# Altium schematic symbol library 3_C5157152_TP5000移动电源方案验证板.schdoc.SCHLIB: 15 symbols
Pins are listed as number, name and electrical type; pins without a type are passive.

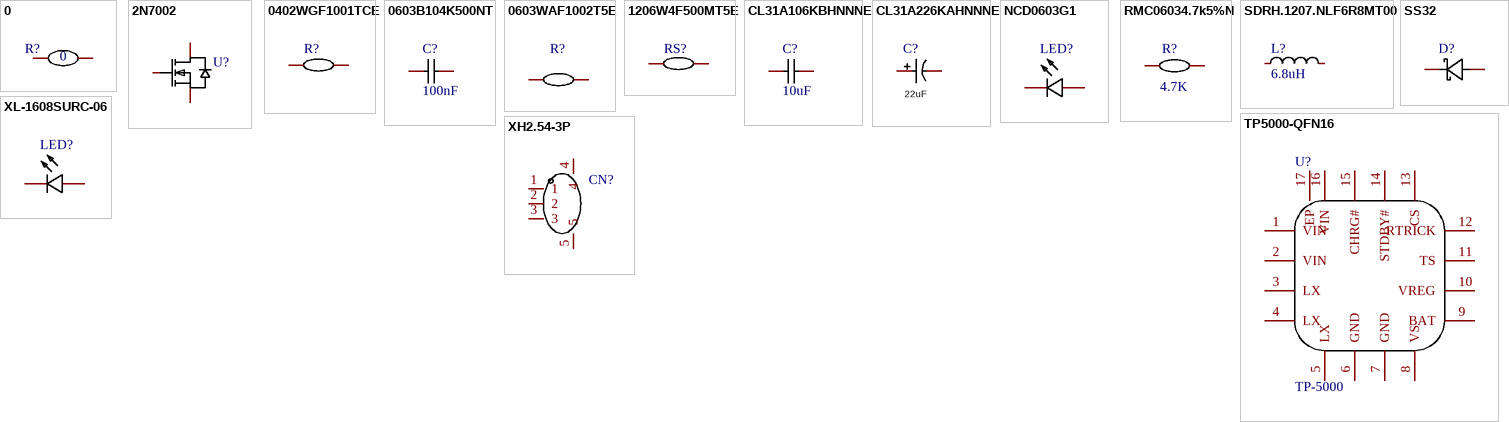
[diagram p0: symbols 0 to XL-1608SURC-06]

## 0
designator R?
Convert to PCB: yes; Origin Footprint: R0603; Symbol: 0; Device: 0; Add into BOM: yes; Name: 0
footprint 0603C
pins: 1, 2

## 2N7002
designator U?  (value not drawn)
Symbol: 2N7002_C727149; Add into BOM: yes; Device: 2N7002; LCSC Part Name: 2N7002; Supplier Part: C727149; Manufacturer Part: 2N7002; Supplier Footprint: SOT23; JLCPCB Part Class: Extended Part; Datasheet: https://atta.szlcsc.com/upload/public/pdf/source/20200827/C727149_F88DE2A79720D5B1ACE833184507B038.pdf; Supplier: LCSC; Convert to PCB: yes; Type: -; Drain Source Voltage (Vdss): -; Continuous Drain Current (Id): -; Power Dissipation (Pd): -; Drain Source On Resistance (RDS(on)@Vgs,Id): -; Gate Threshold Voltage (Vgs(th)@Id): -; Total Gate Charge (Qg@Vgs): -; Input Capacitance (Ciss@Vds): -; Reverse Transfer Capacitance (Crss@Vds): -; Name: 2N7002
footprint SOT-23-3_L2.9-W1.3-P1.90-LS2.4-BR
3D model SOT-23-3P_L2.9-W1.3-H1.0-LS2.4-P0.95
pins: 1 G, 2 S, 3 D

## 0402WGF1001TCE
designator R?
Device: 0402WGF1001TCE; Add into BOM: yes; Power(Watts): 62.5mW; Overload Voltage (Max): 50V; Manufacturer Part: 0402WGF1001TCE; Supplier Footprint: 0402; JLCPCB Part Class: Basic Part; Datasheet: https://atta.szlcsc.com/upload/public/pdf/source/20200306/C422600_1E6D84923E4A46A82E41ADD87F860B5C.pdf; Supplier: LCSC; Convert to PCB: yes
footprint 0402C
3D model R0402_L1.0-W0.5-H0.5
pins: 1, 2

## 0603B104K500NT
designator C?, comment 100nF
Manufacturer: FH; Device: 0603B104K500NT; Convert to PCB: yes; Origin Footprint: C0603; Symbol: 100nF; Supplier: LCSC; Manufacturer Part: 0603B104K500NT; Supplier Part: C30926; JLCPCB Part Class: Extended Part; Add into BOM: yes; Name: 100nF
footprint 0603C
pins: 1, 2

## 0603WAF1002T5E
designator R?
Manufacturer: UniOhm; Device: 0603WAF1002T5E; Resistance: 10K; Convert to PCB: yes; Origin Footprint: R0603; Supplier: LCSC; Manufacturer Part: 0603WAF1002T5E; Supplier Part: C25804; JLCPCB Part Class: Basic Part; Add into BOM: yes
footprint 0603C
pins: 1, 2

## 1206W4F500MT5E
designator RS?
Manufacturer: UniOhm; Device: 1206W4F500MT5E; Resistance: 0.05; Convert to PCB: yes; Origin Footprint: R1206; Supplier: LCSC; Manufacturer Part: 1206W4F500MT5E; Supplier Part: C127691; JLCPCB Part Class: Extended Part; Add into BOM: yes
footprint R1812
pins: 1, 2

## CL31A106KBHNNNE
designator C?, comment 10uF
Symbol: CL31A106KBHNNNE; Add into BOM: yes; Voltage Rated: 50V; Temperature Coefficient: X5R; Device: CL31A106KBHNNNE; Supplier Part: C13585; Manufacturer Part: CL31A106KBHNNNE; Supplier Footprint: 1206; JLCPCB Part Class: Basic Part; Datasheet: https://atta.szlcsc.com/upload/public/pdf/source/20160103/1457707668742.pdf; Supplier: LCSC; Convert to PCB: yes; Value: 10uF; Name: 10uF
footprint C1206
3D model C1206_L3.2-W1.6-H1.3
pins: 1, 2

## CL31A226KAHNNNE
designator C?, comment 22uF
Device: CL31A226KAHNNNE; Add into BOM: yes; Temperature Coefficient: X5R; Voltage Rated: 25V; Origin Footprint: CAP-TH_BD4.0-P1.50-D0.8-FD; Supplier Part: C12891; Manufacturer Part: CL31A226KAHNNNE; Supplier Footprint: 1206; JLCPCB Part Class: Extended Part; Datasheet: https://atta.szlcsc.com/upload/public/pdf/source/20160103/1457707667836.pdf; Supplier: LCSC; Convert to PCB: yes; Symbol: 22uF; Value: 22uF
footprint C1206
3D model C1206_L3.2-W1.6-H1.3
footprint CAP-SMD_BD6.3-L6.6-W6.6-FD
pins: 1, 2

## NCD0603G1
designator LED?  (value not drawn)
Symbol: 19-217/GHC-YR1S2/3T; Add into BOM: yes; Luminous Intensity (IF=20mA): 300~900mcd@10mA; Dominant Wavelength / Coordinate rank: 515~530nm; Dominant Wavelength: 520nm~535nm; Peak Wavelength: 518nm; Forward Current: 20mA; Power Dissipation: 110mW; Device: NCD0603G1; Supplier Part: C84267; Manufacturer Part: NCD0603G1; Supplier Footprint: 0603; JLCPCB Part Class: Extended Part; Datasheet: https://atta.szlcsc.com/upload/public/pdf/source/20200820/C84267_04BA7703640BAC111D09F5EFB971FBF3.pdf; Supplier: LCSC; Convert to PCB: yes; Correlated Color Temperature - CCT(K): -; Luminous Flux/Radiant Flux: -; Diode Configuration: -; Color Temperature: -; Mounting Sytle: -; Name: NCD0603G1
footprint LED0603-RD
3D model LED0603-RD
pins: 1 C, 2 A

## RMC06034.7k5%N
designator R?, comment 4.7K
Manufacturer: Tyohm; Device: RMC06034.7k5%N; Convert to PCB: yes; Origin Footprint: R0603; Symbol: 4.7K; Supplier: LCSC; Supplier Part: C269694; Manufacturer Part: RMC06034.7k5%N; JLCPCB Part Class: Extended Part; Add into BOM: yes; Name: 4.7K
footprint 0603C
pins: 1, 2

## SDRH.1207.NLF6R8MT00
designator L?, comment 6.8uH
Symbol: SDRH.1207.NLF6R8MT00; Add into BOM: yes; Rated Current: 6.5A; Device: SDRH.1207.NLF6R8MT00; Supplier Part: C2942306; Manufacturer Part: SDRH.1207.NLF6R8MT00; Supplier Footprint: SMD,12x12mm; JLCPCB Part Class: Extended Part; Datasheet: https://atta.szlcsc.com/upload/public/pdf/source/20220117/7DF2F95CA0318327D9DA3D2F3A34BD2A.pdf; Supplier: LCSC; Convert to PCB: yes; Value: 6.8uH; Saturation Current (Isat): 6.5A; Name: 6.8uH
footprint IND-SMD_L12.0-W12.0
3D model SMD-PIND_L12.5-W12.5-H8.0
pins: 1, 2

## SS32
designator D?  (value not drawn)
Symbol: SS32_C727059; Add into BOM: yes; Device: SS32; LCSC Part Name: SS32; Supplier Part: C727059; Manufacturer Part: SS32; Supplier Footprint: SMA; JLCPCB Part Class: Extended Part; Datasheet: https://atta.szlcsc.com/upload/public/pdf/source/20200828/C727059_6599B6CAC5F3238B9C33E46794659DBE.pdf; Supplier: LCSC; Convert to PCB: yes; Name: SS32
footprint SMAF_L4.3-W2.5-LS5.0-RD
3D model SMAF_L4.3-W2.5-LS5.0-RD
pins: 1 C, 2 A

## TP5000-QFN16
designator U?  Name: TP-5000  (hidden comment: TP5000-QFN16)
Add into BOM: yes; Symbol: TP5000-QFN16; Device: TP5000-QFN16; LCSC Part Name: TP5000-QFN16; Supplier Part: C51699; Manufacturer Part: TP5000-QFN16; Supplier Footprint: QFN-16(4x4); JLCPCB Part Class: Extended Part; Datasheet: https://atta.szlcsc.com/upload/public/pdf/source/20150618/1457707323704.pdf; Supplier: LCSC; Convert to PCB: yes
footprint QFN-16_L4.0-W4.0-P0.65-BL-EP2.2
3D model QFN-16_L4.0-W4.0-H1.0-P0.65
pins: 1 VIN, 2 VIN, 3 LX, 4 LX, 5 LX, 6 GND, 7 GND, 8 VS, 9 BAT, 10 VREG, 11 TS, 12 RTRICK, 13 CS, 14 STDBY#, 15 CHRG#, 16 VIN, 17 EP

## XH2.54-3P
designator CN?  (value not drawn)
Add into BOM: yes; Symbol: XH2.54-3P; Device: XH2.54-3P; LCSC Part Name: XH2.54-3P; Supplier Part: C9900004346; Manufacturer Part: XH2.54-3P; Supplier Footprint: XH2.54-3PSMD; JLCPCB Part Class: Extended Part; Supplier: LCSC; Convert to PCB: yes; Name: XH2.54-3P
footprint CONN-SMD_3P-P2.50-WT
3D model CONN-SMD_3P-P2.50-WT
pins: 1, 2, 3, 4, 5

## XL-1608SURC-06
designator LED?  (value not drawn)
Symbol: 19-213/Y2C-CQ2R2L/3T(CY); Add into BOM: yes; Dominant Wavelength: 617nm~621nm; Peak Wavelength: 623nm; Forward Current: 25mA; Power Dissipation: 55mW; Luminous Intensity (IF=20mA): 80~100mcd; Dominant Wavelength / Coordinate rank: 615~630nm; Forward Voltage (VF): 2.2V; Luminous Intensity: 28.5mcd; Device: XL-1608SURC-06; Supplier Part: C965799; Manufacturer Part: XL-1608SURC-06; Supplier Footprint: 0603; JLCPCB Part Class: Extended Part; Datasheet: https://atta.szlcsc.com/upload/public/pdf/source/20221102/D860AFDD1CDB02C5A8064103A32707E2.pdf; Supplier: LCSC; Convert to PCB: yes; Color Temperature: -; Diode Configuration: -; Name: XL-1608SURC-06
footprint LED0603-RD_RED
3D model LED0603-RD_RED
pins: 1 C, 2 A